# EAGLE library part ATMEGA328-PU (library ATMEGA328-PU)
Check availability <https://pricing.snapeda.com/parts/ATMEGA328PU/Microchip%20Technology/view-part?ref=eda>
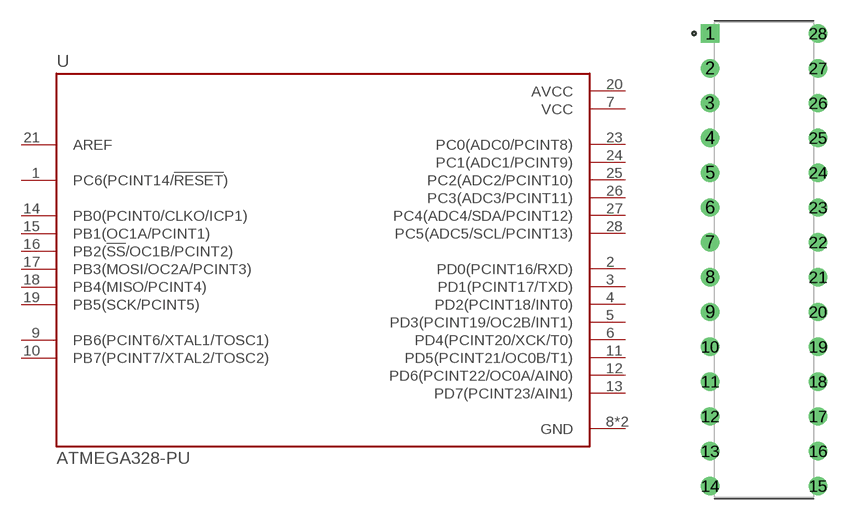
[diagram p0: symbol with the pads of DIP787W46P254L3467H508Q28; footprint DIP787W46P254L3467H508Q28]

Designator prefix U

## ATMEGA328-PU (Availability: In Stock; Description: MCU, 8BIT, ATMEGA, 20MHZ, DIP-28; Product Range:AVR ATmega Family ATmega328 Series Microcontrollers; CPU Speed:20MHz; Program Memory Size:32KB; RAM Memory Size:2KB; No. of Pins:28Pins; MCU Case Style:DIP; No. of I/O's:23I/O's; Embedded Interface Type:I2C, SPI, UART; Supply Voltage Min:1.8V; Supply Voltage Max:5.5V; MCU Family:AVR ATmega; MCU Series:ATmega328; Automotive Qualification Standard:-; RoHS Phthalates Compliant:Yes; MSL:-; SVHC:No SVHC (27-Jun-2018); Controller Family/Series:ATmega; EEPROM Memory Size:1KB; MPU Core Size:8bit; No. of PWM Channels:6; No. of Timers:3; Operating Temperature Max:85°C; Operating Temperature Min:-40°C; Operating Temperature Range:-40°C to +85°C; Oscillator Type:External, Internal; Peripherals:ACMP, ADC, POR, PWM, RTC; Program Memory Size:32KB; Supply Voltage Range:1.8V to 5.5V; MF: Microchip Technology; MP: ATMEGA328PU; Package: DIP-28 Microchip Technology; Price: None; Purchase-URL: https://pricing.snapeda.com/search/part/ATMEGA328PU/?ref=eda)  [DIP787W46P254L3467H508Q28]
1  PC6(PCINT14/!RESET!)
2  PD0(PCINT16/RXD)
3  PD1(PCINT17/TXD)
4  PD2(PCINT18/INT0)
5  PD3(PCINT19/OC2B/INT1)
6  PD4(PCINT20/XCK/T0)
7  VCC  pwr
8  GND  pwr
9  PB6(PCINT6/XTAL1/TOSC1)
10  PB7(PCINT7/XTAL2/TOSC2)
11  PD5(PCINT21/OC0B/T1)
12  PD6(PCINT22/OC0A/AIN0)
13  PD7(PCINT23/AIN1)
14  PB0(PCINT0/CLKO/ICP1)
15  PB1(OC1A/PCINT1)
16  PB2(!SS!/OC1B/PCINT2)
17  PB3(MOSI/OC2A/PCINT3)
18  PB4(MISO/PCINT4)
19  PB5(SCK/PCINT5)
20  AVCC  pwr
21  AREF  in
22  GND  pwr
23  PC0(ADC0/PCINT8)
24  PC1(ADC1/PCINT9)
25  PC2(ADC2/PCINT10)
26  PC3(ADC3/PCINT11)
27  PC4(ADC4/SDA/PCINT12)
28  PC5(ADC5/SCL/PCINT13)

## Footprint DIP787W46P254L3467H508Q28 (pad centres in mm)
drill 0.83 pad 1.25 square: 1 -3.937,16.51
drill 0.83 pad 1.25: 2 -3.937,13.97; 3 -3.937,11.43; 4 -3.937,8.89; 5 -3.937,6.35; 6 -3.937,3.81; 7 -3.937,1.27; 8 -3.937,-1.27; 9 -3.937,-3.81; 10 -3.937,-6.35; 11 -3.937,-8.89; 12 -3.937,-11.43; 13 -3.937,-13.97; 14 -3.937,-16.51; 15 3.937,-16.51; 16 3.937,-13.97; 17 3.937,-11.43; 18 3.937,-8.89; 19 3.937,-6.35; 20 3.937,-3.81; 21 3.937,-1.27; 22 3.937,1.27; 23 3.937,3.81; 24 3.937,6.35; 25 3.937,8.89; 26 3.937,11.43; 27 3.937,13.97; 28 3.937,16.51